# Altium integrated library Flight_Computer_1.IntLib: 48 symbols (part 1 of 3)
Pins are listed as number, name and electrical type; pins without a type are passive.

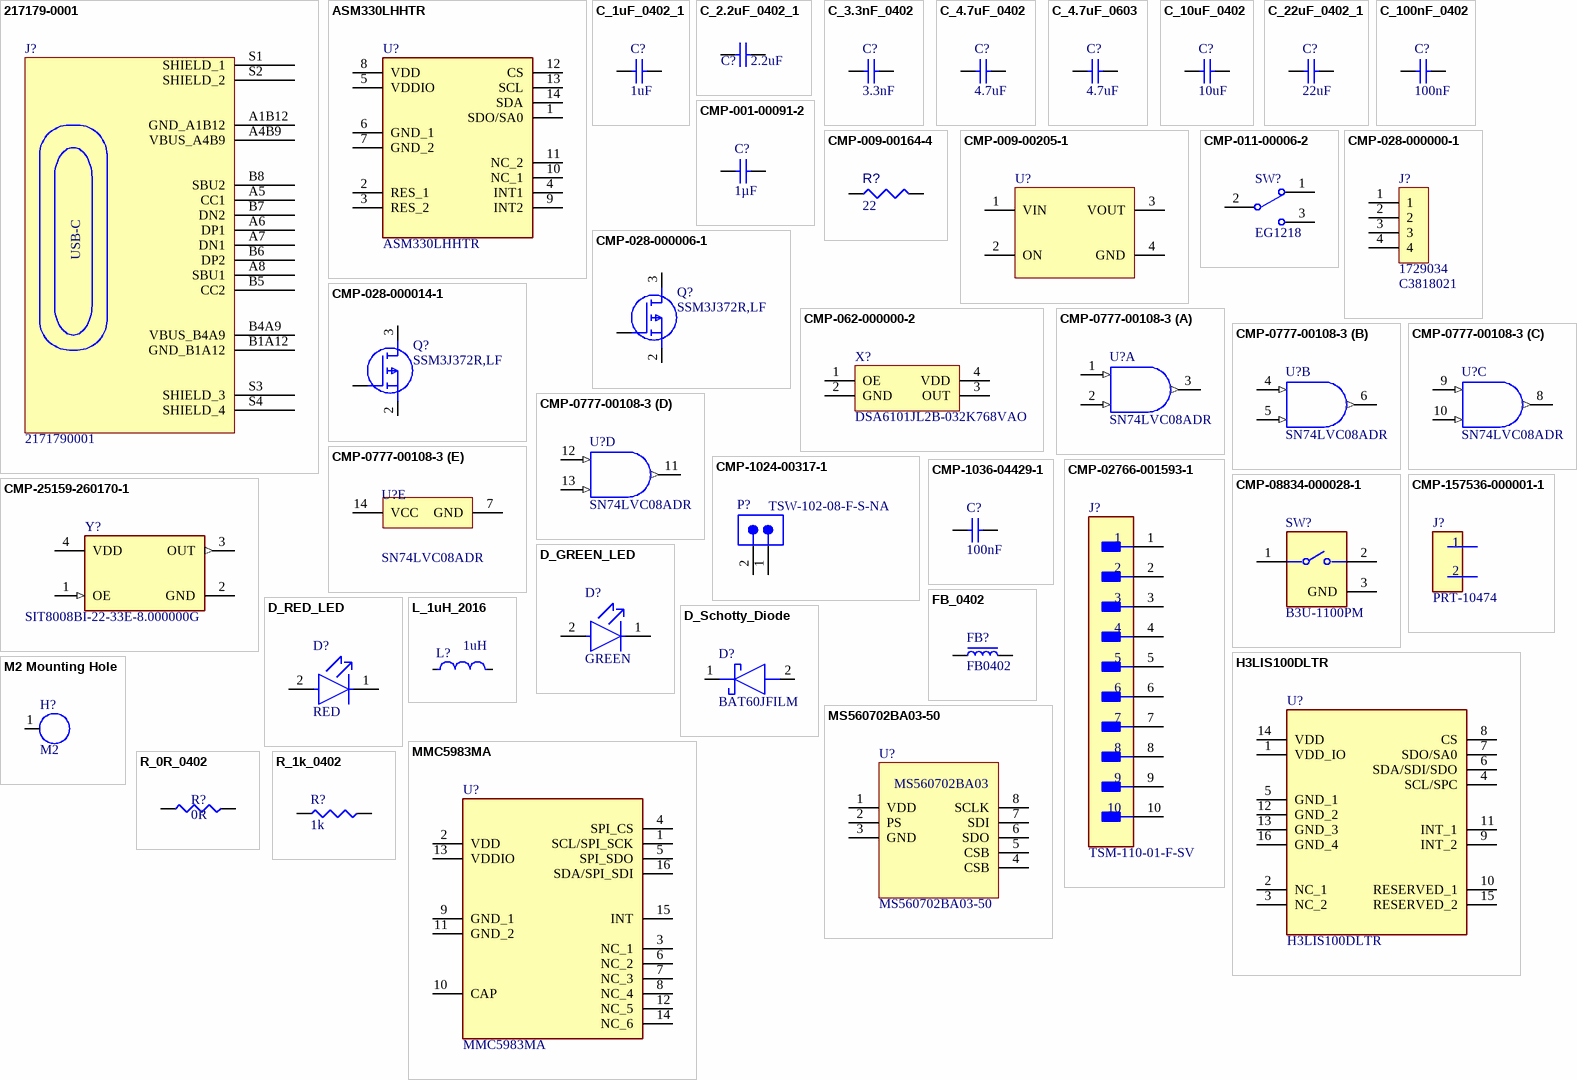
[diagram p0: symbols 217179-0001 to R_1k_0402]

## 217179-0001
designator J?, comment 2171790001
CONN RCP USB2.0 TYP C 24P SMD RA; Manufacturer: Molex; Manufacturer Part Number: 217179-0001; Supplier: Digikey; Supplier Part Number: 900-2171790001CT-ND; RoHS: No; Category: Connectors; Stock: 11294; Pricing: 1=0.98, 10=0.731, 25=0.6564, 50=0.6074, 100=0.5642, 250=0.51468, 500=0.48234, 1200=0.44689, 2400=0.42258, 3600=0.40973, 6000=0.39484, 8400=0.38577, 12000=0.37675 (USD); LCSC Part #: C3197684
footprint FP-2171790001-MFG
pins: A1B12 GND_A1B12, A4B9 VBUS_A4B9, A5 CC1, A6 DP1, A7 DN1, A8 SBU1, B1A12 GND_B1A12, B4A9 VBUS_B4A9, B5 CC2, B6 DP2, B7 DN2, B8 SBU2, S1 SHIELD_1, S2 SHIELD_2, S3 SHIELD_3, S4 SHIELD_4
text: USB-C

## ASM330LHHTR
designator U?
Accelerometer and Gyroscope 6-Axis 3D Digital-I2C/Digital-SPI-OUT 14-Pin LGA T/R; Manufacturer_Name: STMicroelectronics; Max Supply Voltage: 3.6V; Min Supply Voltage: 2V; Number of Circuits: 1; Operating Supply Voltage: 3V; Datasheet Link: https://www.st.com/resource/en/datasheet/asm330lhh.pdf; Height: 0.86mm; Manufacturer_Part_Number: ASM330LHHTR; Mouser Part Number: 511-ASM330LHHTR; Mouser Price/Stock: https://www.mouser.co.uk/ProductDetail/STMicroelectronics/ASM330LHHTR?qs=lc2O%252BfHJPVYgP8P9MzExKQ%3D%3D; Arrow Part Number: ASM330LHHTR; Arrow Price/Stock: https://www.arrow.com/en/products/asm330lhhtr/stmicroelectronics?utm_currency=USD&region=europe; Supplier: DigiKey; Supplier Part Number: 497-19078-1-ND; Manufacturer: STMicroelectronics; Manufacturer Part Number: ASM330LHHTR; RoHS: Compliant; Category: Accelerometers; Stock: 5000; Pricing: 1=7.25, 5=6.54, 10=6.275, 25=5.9592, 50=5.743, 100=5.545, 500=5.34888 (USD); China RoHS: Non-Compliant; Height - Seated (Max): 860µm; Length: 3mm; Lifecycle Status: Production; Max Operating Temperature: 105°C; Min Operating Temperature: -40°C; Number of Terminals: 14; Output Type: Digital; REACH SVHC: Yes; Terminal Pitch: 500µm; Width: 2.5mm; ComponentLink1URL: https://datasheet.octopart.com:443/ASM330LHHTR-STMicroelectronics-datasheet-181242432.pdf?src-supplier=IHS; ComponentLink1Description: https://datasheet.octopart.com:443/ASM330LHHTR-STMicroelectronics-datasheet-181242432.pdf?src-supplier=IHS; ComponentLink2URL: https://datasheet.octopart.com:443/ASM330LHHTR-STMicroelectronics-datasheet-129375621.pdf?src-supplier=ODG+(Origin+Data+Global); ComponentLink2Description: https://datasheet.octopart.com:443/ASM330LHHTR-STMicroelectronics-datasheet-129375621.pdf?src-supplier=ODG+(Origin+Data+Global); LCSC Part #: C459826
footprint LSM6DS3USTR
pins: 1 SDO/SA0, 2 RES_1, 3 RES_2, 4 INT1, 5 VDDIO, 6 GND_1, 7 GND_2, 8 VDD, 9 INT2, 10 NC_1, 11 NC_2, 12 CS, 13 SCL, 14 SDA

## C_1uF_0402_1
designator C?, comment 1uF
CAP CER 1UF 6.3V X5R 0402; Manufacturer: KYOCERA AVX; Manufacturer Part Number: 04026D105KAT4A; Value: 1µF; Dielectric Material: Ceramic; Tolerance: 10%; Supplier: DigiKey; Supplier Part Number: 478-KGM05AR50J105KNCT-ND; RoHS: Compliant; Category: Ceramic Capacitors; Stock: 202864; Pricing: 1=0.1, 10=0.047, 50=0.0318, 100=0.0274, 500=0.01992, 1000=0.01763, 2500=0.01522, 5000=0.01376 (USD); Case/Package: 0402; Case Code (Imperial): 0402; Case Code (Metric): 1005; China RoHS: Compliant; Contact Plating: Tin; Depth: 500µm; Dielectric: X5R; Height: 560µm; Lead Free: Lead Free; Length: 1mm; Lifecycle Status: Production; Max Operating Temperature: 85°C; Min Operating Temperature: -55°C; Mounting Technology: Surface Mount; Pins: 2; Number of Terminals: 2; Packaging: Tape and Reel; Radiation Hardening: No; REACH SVHC: Yes; Termination: SMD/SMT; Voltage Rating: 6.3V; Voltage Rating (DC): 6.3V; Width: 500µm; ComponentLink1URL: https://datasheet.octopart.com:443/04026D105KAT4A-KYOCERA-AVX-datasheet-165873359.pdf?src-supplier=IHS; ComponentLink1Description: https://datasheet.octopart.com:443/04026D105KAT4A-KYOCERA-AVX-datasheet-165873359.pdf?src-supplier=IHS; ComponentLink2URL: https://datasheet.octopart.com:443/04026D105KAT4A-AVX-Interconnect---Elco-datasheet-12340990.pdf?src-supplier=Farnell; ComponentLink2Description: https://datasheet.octopart.com:443/04026D105KAT4A-AVX-Interconnect---Elco-datasheet-12340990.pdf?src-supplier=Farnell; ComponentLink3URL: https://datasheet.octopart.com:443/04026D105KAT4A-KYOCERA-AVX-datasheet-78690022.pdf?src-supplier=element14+APAC; ComponentLink3Description: https://datasheet.octopart.com:443/04026D105KAT4A-KYOCERA-AVX-datasheet-78690022.pdf?src-supplier=element14+APAC; ComponentLink4URL: https://datasheet.octopart.com:443/04026D105KAT4A-KYOCERA-AVX-datasheet-155912759.pdf?src-supplier=TME; ComponentLink4Description: https://datasheet.octopart.com:443/04026D105KAT4A-KYOCERA-AVX-datasheet-155912759.pdf?src-supplier=TME; ComponentLink5URL: https://datasheet.octopart.com:443/04026D105KAT4A-KYOCERA-AVX-datasheet-50865064.pdf?src-supplier=Future+Electronics; ComponentLink5Description: https://datasheet.octopart.com:443/04026D105KAT4A-KYOCERA-AVX-datasheet-50865064.pdf?src-supplier=Future+Electronics; ComponentLink6URL: https://datasheet.octopart.com:443/04026D105KAT4A-AVX-datasheet-8448153.pdf?src-supplier=Future+Electronics; ComponentLink6Description: https://datasheet.octopart.com:443/04026D105KAT4A-AVX-datasheet-8448153.pdf?src-supplier=Future+Electronics; ComponentLink7URL: https://datasheet.octopart.com:443/04026D105KAT4A-AVX-datasheet-5314571.pdf?src-supplier=Future+Electronics; ComponentLink7Description: https://datasheet.octopart.com:443/04026D105KAT4A-AVX-datasheet-5314571.pdf?src-supplier=Future+Electronics; ComponentLink8URL: https://datasheet.octopart.com/04026D105KAT4A-KYOCERA-AVX-datasheet-13516023.pdf; ComponentLink8Description: https://datasheet.octopart.com/04026D105KAT4A-KYOCERA-AVX-datasheet-13516023.pdf; ComponentLink9URL: http://sigma.octopart.com:80/reach_statement/AVX-company-19.pdf?src-supplier=Compliance+Statements; ComponentLink9Description: http://sigma.octopart.com:80/reach_statement/AVX-company-19.pdf?src-supplier=Compliance+Statements; ComponentLink10URL: http://sigma.octopart.com:80/conflict_mineral_statement/AVX-company-34.pdf?src-supplier=Compliance+Statements; ComponentLink10Description: http://sigma.octopart.com:80/conflict_mineral_statement/AVX-company-34.pdf?src-supplier=Compliance+Statements; LCSC Part #: C2170652
footprint 0402_C
pins: 1, 2

## C_2.2uF_0402_1
designator C?, comment 2.2uF
Ceramic Capacitor, Ceramic, 25V, 20% +Tol, 20% -Tol, X5R, 15% TC, 2.2uF, Surface Mount, 0402; Manufacturer: Yageo Group; Manufacturer Part Number: CC0402MRX5R8BB225; Dielectric: C0G; Insulation Resistance: 10GΩ; Temperature Coefficient: 30ppm/°C; Voltage Rating: 50V; Value: 2.2µF; Case/Package: 0402; Case Code (Imperial): 0402; Case Code (Metric): 1005; China RoHS: Compliant; Composition: Ceramic; Depth: 500µm; Dielectric Material: Ceramic; Halogen Free: Halogen Free; Height: 500µm; Lead Free: Lead Free; Length: 1mm; Lifecycle Status: Production; Max Operating Temperature: 125°C; Min Operating Temperature: -55°C; Mounting Technology: Surface Mount; Pins: 2; Number of Terminals: 2; Packaging: Tape & Reel (TR); Radiation Hardening: No; REACH SVHC: Yes; Schedule B: 8532240020, 8532240020|8532240020|8532240020|8532240020|8532240020; Termination: SMD/SMT; Thickness: 558.8µm; Voltage Rating (DC): 50V; Weight: 652.039032µg; Width: 500µm; ComponentLink1URL: https://datasheet.octopart.com:443/CC0402CRNPO9BN2R7-Yageo-datasheet-182140217.pdf?src-supplier=IHS; ComponentLink1Description: https://datasheet.octopart.com:443/CC0402CRNPO9BN2R7-Yageo-datasheet-182140217.pdf?src-supplier=IHS; ComponentLink2URL: https://datasheet.octopart.com:443/CC0402CRNPO9BN2R7-Yageo-datasheet-151948684.pdf?src-supplier=Farnell; ComponentLink2Description: https://datasheet.octopart.com:443/CC0402CRNPO9BN2R7-Yageo-datasheet-151948684.pdf?src-supplier=Farnell; ComponentLink3URL: https://datasheet.octopart.com:443/CC0402CRNPO9BN2R7-Yageo-datasheet-181966735.pdf?src-supplier=Farnell; ComponentLink3Description: https://datasheet.octopart.com:443/CC0402CRNPO9BN2R7-Yageo-datasheet-181966735.pdf?src-supplier=Farnell; ComponentLink4URL: https://datasheet.octopart.com:443/CC0402CRNPO9BN2R7-Yageo-datasheet-137875056.pdf?src-supplier=Future+Electronics; ComponentLink4Description: https://datasheet.octopart.com:443/CC0402CRNPO9BN2R7-Yageo-datasheet-137875056.pdf?src-supplier=Future+Electronics; ComponentLink5URL: https://datasheet.octopart.com:443/CC0402CRNPO9BN2R7-Yageo-datasheet-136957424.pdf?src-supplier=Future+Electronics; ComponentLink5Description: https://datasheet.octopart.com:443/CC0402CRNPO9BN2R7-Yageo-datasheet-136957424.pdf?src-supplier=Future+Electronics; ComponentLink6URL: https://datasheet.octopart.com:443/CC0402CRNPO9BN2R7-Yageo-datasheet-137700082.pdf?src-supplier=Future+Electronics; ComponentLink6Description: https://datasheet.octopart.com:443/CC0402CRNPO9BN2R7-Yageo-datasheet-137700082.pdf?src-supplier=Future+Electronics; ComponentLink7URL: https://datasheet.octopart.com:443/CC0402CRNPO9BN2R7-Yageo-datasheet-78855684.pdf?src-supplier=Future+Electronics; ComponentLink7Description: https://datasheet.octopart.com:443/CC0402CRNPO9BN2R7-Yageo-datasheet-78855684.pdf?src-supplier=Future+Electronics; ComponentLink8URL: https://datasheet.octopart.com:443/CC0402CRNPO9BN2R7-Yageo-datasheet-24578986.pdf?src-supplier=Future+Electronics; ComponentLink8Description: https://datasheet.octopart.com:443/CC0402CRNPO9BN2R7-Yageo-datasheet-24578986.pdf?src-supplier=Future+Electronics; ComponentLink9URL: https://datasheet.octopart.com:443/CC0402CRNPO9BN2R7-Yageo-datasheet-16730043.pdf?src-supplier=Future+Electronics; ComponentLink9Description: https://datasheet.octopart.com:443/CC0402CRNPO9BN2R7-Yageo-datasheet-16730043.pdf?src-supplier=Future+Electronics; ComponentLink10URL: https://datasheet.octopart.com:443/CC0402CRNPO9BN2R7-Yageo-datasheet-12589826.pdf?src-supplier=Future+Electronics; ComponentLink10Description: https://datasheet.octopart.com:443/CC0402CRNPO9BN2R7-Yageo-datasheet-12589826.pdf?src-supplier=Future+Electronics; ComponentLink11URL: https://datasheet.octopart.com:443/CC0402CRNPO9BN2R7-Yageo-datasheet-10406438.pdf?src-supplier=Newark; ComponentLink11Description: https://datasheet.octopart.com:443/CC0402CRNPO9BN2R7-Yageo-datasheet-10406438.pdf?src-supplier=Newark; ComponentLink12URL: https://datasheet.octopart.com:443/CC0402CRNPO9BN2R7-Yageo-datasheet-65873193.pdf?src-supplier=Newark; ComponentLink12Description: https://datasheet.octopart.com:443/CC0402CRNPO9BN2R7-Yageo-datasheet-65873193.pdf?src-supplier=Newark; ComponentLink13URL: https://datasheet.octopart.com:443/CC0402CRNPO9BN2R7-Yageo-datasheet-68296204.pdf?src-supplier=Megastar; ComponentLink13Description: https://datasheet.octopart.com:443/CC0402CRNPO9BN2R7-Yageo-datasheet-68296204.pdf?src-supplier=Megastar; ComponentLink14URL: http://sigma.octopart.com:80/rohs_statement/Yageo-company-2.pdf?src-supplier=Compliance+Statements; ComponentLink14Description: http://sigma.octopart.com:80/rohs_statement/Yageo-company-2.pdf?src-supplier=Compliance+Statements; ComponentLink15URL: http://sigma.octopart.com:80/conflict_mineral_statement/Yageo-company-3.pdf?src-supplier=Compliance+Statements; ComponentLink15Description: http://sigma.octopart.com:80/conflict_mineral_statement/Yageo-company-3.pdf?src-supplier=Compliance+Statements; LCSC Part #: C277484; Supplier: DigiKey; Supplier Part Number: 13-CC0402MRX5R8BB225CT-ND; RoHS: Compliant; Category: Ceramic Capacitors; Stock: 20337; Pricing: 1=0.3, 10=0.176, 50=0.1282, 100=0.1135, 500=0.08336, 1000=0.08124, 2500=0.07321, 5000=0.06838 (USD); Material: Ceramic; ComponentLink16URL: https://datasheet.octopart.com:443/CC0402MRX5R8BB225-Yageo-datasheet-170350636.pdf?src-supplier=IHS; ComponentLink16Description: https://datasheet.octopart.com:443/CC0402MRX5R8BB225-Yageo-datasheet-170350636.pdf?src-supplier=IHS; ComponentLink17URL: https://datasheet.octopart.com:443/CC0402MRX5R8BB225-Yageo-datasheet-78855684.pdf?src-supplier=Upverter; ComponentLink17Description: https://datasheet.octopart.com:443/CC0402MRX5R8BB225-Yageo-datasheet-78855684.pdf?src-supplier=Upverter; ComponentLink18URL: https://datasheet.octopart.com:443/CC0402MRX5R8BB225-Yageo-datasheet-181967557.pdf?src-supplier=Farnell; ComponentLink18Description: https://datasheet.octopart.com:443/CC0402MRX5R8BB225-Yageo-datasheet-181967557.pdf?src-supplier=Farnell; ComponentLink19URL: https://datasheet.octopart.com:443/CC0402MRX5R8BB225-Yageo-datasheet-181967556.pdf?src-supplier=Farnell; ComponentLink19Description: https://datasheet.octopart.com:443/CC0402MRX5R8BB225-Yageo-datasheet-181967556.pdf?src-supplier=Farnell; ComponentLink20URL: https://datasheet.octopart.com:443/CC0402MRX5R8BB225-Yageo-datasheet-145016144.pdf?src-supplier=ODG+(Origin+Data+Global); ComponentLink20Description: https://datasheet.octopart.com:443/CC0402MRX5R8BB225-Yageo-datasheet-145016144.pdf?src-supplier=ODG+(Origin+Data+Global); ComponentLink21URL: https://datasheet.octopart.com/CC0402MRX5R8BB225-Yageo-datasheet-86397281.pdf; ComponentLink21Description: https://datasheet.octopart.com/CC0402MRX5R8BB225-Yageo-datasheet-86397281.pdf; Supplier 1: DigiKey; Supplier Part Number 1: 13-CC0402KRX5R8BB225CT-ND; LCSC Part #: C723363
footprint 0402_C
pins: 1, 2

## C_3.3nF_0402
designator C?, comment 3.3nF
CAP CER 3300PF (3.3nF) 10V X7R 0402; Manufacturer: Samsung Electro-Mechanics; Manufacturer Part Number: CL05B332KA5VPNC; Dielectric Material: Ceramic; Tolerance: 10%; Voltage Rating: 25V; Supplier: DigiKey; Supplier Part Number: 1276-CL05B332KA5VPNCCT-ND; RoHS: Compliant; Category: Ceramic Capacitors; Stock: 24876; Pricing: 1=0.1, 10=0.034, 50=0.0226, 100=0.0193, 500=0.0138, 1000=0.01212, 2500=0.01034, 5000=0.00928 (USD); Value: 3.3nF; Case/Package: 0402; China RoHS: Compliant; Height: 500µm; Length: 1mm; Lifecycle Status: Production; Material: Ceramic; Max Operating Temperature: 125°C; Min Operating Temperature: -55°C; Mounting Technology: Surface Mount; Number of Terminals: 2; REACH SVHC: Yes; Voltage Rating (DC): 25V; Width: 500µm; ComponentLink1URL: https://datasheet.octopart.com:443/CL05B332KA5VPNC-Samsung-Electro-Mechanics-datasheet-176142735.pdf?src-supplier=IHS; ComponentLink1Description: https://datasheet.octopart.com:443/CL05B332KA5VPNC-Samsung-Electro-Mechanics-datasheet-176142735.pdf?src-supplier=IHS; Case Code (Imperial): 0402; Case Code (Metric): 1005; Dielectric: X7R; Pins: 2; Termination: SMD/SMT; Weight: 652.039032µg; ComponentLink2URL: https://datasheet.octopart.com:443/C0402C332M8RACTU-KEMET-datasheet-178445679.pdf?src-supplier=IHS; ComponentLink2Description: https://datasheet.octopart.com:443/C0402C332M8RACTU-KEMET-datasheet-178445679.pdf?src-supplier=IHS; ComponentLink3URL: https://datasheet.octopart.com:443/C0402C332M8RACTU-KEMET-datasheet-137357759.pdf?src-supplier=Upverter; ComponentLink3Description: https://datasheet.octopart.com:443/C0402C332M8RACTU-KEMET-datasheet-137357759.pdf?src-supplier=Upverter; ComponentLink4URL: https://datasheet.octopart.com:443/C0402C332M8RACTU-KEMET-datasheet-157246124.pdf?src-supplier=Electro+Sonic; ComponentLink4Description: https://datasheet.octopart.com:443/C0402C332M8RACTU-KEMET-datasheet-157246124.pdf?src-supplier=Electro+Sonic; ComponentLink5URL: https://datasheet.octopart.com/C0402C332M8RACTU-KEMET-datasheet-84169754.pdf; ComponentLink5Description: https://datasheet.octopart.com/C0402C332M8RACTU-KEMET-datasheet-84169754.pdf; LCSC Part #: C20793063
footprint 0402_C
pins: 1, 2

## C_4.7uF_0402
designator C?, comment 4.7uF
CAP CER 4.7UF 16V X5R 0402; Manufacturer: Samsung; Manufacturer Part Number: CL05A475MO5NUNC; Dielectric Material: Ceramic; Multilayer: Yes; Tolerance  (fill in as +-): 20%; Supplier: Digikey; Supplier Part Number: 1276-6836-1-ND; RoHS: Yes; Category: Ceramic Capacitors; Stock: 200989; Pricing: 1=0.43, 10=0.252, 50=0.1826, 100=0.161, 500=0.12446, 1000=0.11305, 2500=0.10094, 5000=0.0936, 10000=0.08752, 20000=0.08248, 30000=0.07994, 50000=0.07712, 70000=0.07547, 100000=0.07387 (USD); Mounting Technology: Surface Mount; Pins: 2; Package Shape: Rectangular; Case/Package: 0402; Terminal Finish: Nickel; Min Operating Temperature: -55°C; Max Operating Temperature: 85°C; JESD-609 Code: e3; Value: 4.7uF; Capacitor Type: Ceramic; Package Style: SMTMeter; Packaging: Tape and Reel; Tolerance (fill in as +-): 20%; Rated DC Voltage (URdc): 16V; Temperature Characteristics Code: X5R; Termination: Wraparound; Length: 1mm; Width: 0.5mm; Height: 0.7mm; Reach SVHC Compliant: Yes; RoHS Compliant: Yes; ComponentLink1URL: https://datasheet.ciiva.com:443/pdfs/VipMasterIC/IC/SEMS/SEMS-S-A0008384515/SEMS-S-A0008898881-1.pdf?src-supplier=IHS+Markit; ComponentLink1Description: https://datasheet.ciiva.com:443/pdfs/VipMasterIC/IC/SEMS/SEMS-S-A0008384515/SEMS-S-A0008898881-1.pdf?src-supplier=IHS+Markit; ComponentLink2URL: http://www.farnell.com/datasheets/2710653.pdf?src-supplier=Farnell; ComponentLink2Description: http://www.farnell.com/datasheets/2710653.pdf?src-supplier=Farnell; ComponentLink3URL: http://www.samsungsem.com/kr/support/product-search/mlcc/CL05A475MO5NUNC.jsp?src-supplier=Digikey; ComponentLink3Description: http://www.samsungsem.com/kr/support/product-search/mlcc/CL05A475MO5NUNC.jsp?src-supplier=Digikey; ComponentLink4URL: http://www.farnell.com/datasheets/2710653.pdf?src-supplier=Newark; ComponentLink4Description: http://www.farnell.com/datasheets/2710653.pdf?src-supplier=Newark; ComponentLink5URL: http://www.farnell.com/datasheets/2710653.pdf?src-supplier=Element14; ComponentLink5Description: http://www.farnell.com/datasheets/2710653.pdf?src-supplier=Element14; ComponentLink6URL: https://datasheet.octopart.com/CL05A475MO5NUNC-Samsung-Electro-Mechanics-datasheet-123102911.pdf?src-supplier=Future+Electronics; ComponentLink6Description: https://datasheet.octopart.com/CL05A475MO5NUNC-Samsung-Electro-Mechanics-datasheet-123102911.pdf?src-supplier=Future+Electronics; LCSC Part #: C318563
footprint 0402_C
pins: 1, 2

## C_4.7uF_0603
designator C?, comment 4.7uF
CAP CER 4.7UF 10V X5R 0603; Manufacturer_Name: SAMSUNG; Manufacturer_Part_Number: CL10A475KP8NNNC; Datasheet Link: https://www.arrow.com/en/products/cl10a475kp8nnnc/samsung-electro-mechanics; Height: 0.9mm; Mouser Part Number: 187-CL10A475KP8NNNC; Mouser Price/Stock: https://www.mouser.co.uk/ProductDetail/Samsung-Electro-Mechanics/CL10A475KP8NNNC?qs=hqM3L16%252BxlfQRmkWsZz5vA%3D%3D; Arrow Part Number: CL10A475KP8NNNC; Arrow Price/Stock: https://www.arrow.com/en/products/cl10a475kp8nnnc/samsung-electro-mechanics?utm_currency=USD&region=nac; LCSC Part #: C1705
footprint 0603
pins: 1, 2

## C_10uF_0402
designator C?, comment 10uF
Ceramic Capacitor, Multilayer, Ceramic, 10V, 20% +Tol, 20% -Tol, X5R, +-15% TC, 10uF, Surface Mount, 0402 inch; Manufacturer: Samsung Electro-Mechanics; Manufacturer Part Number: CL05A106MP5NUNC; Value: 10µF; LCSC Part #: C315248; Supplier: DigiKey; Supplier Part Number: 1276-1450-1-ND; RoHS: Compliant; Category: Ceramic Capacitors; Stock: 1973072; Pricing: 1=0.08, 10=0.038, 50=0.034, 100=0.0296, 500=0.0272, 1000=0.02, 2500=0.01844 (USD); Case/Package: 0402; Case Code (Imperial): 0402; Case Code (Metric): 1005; China RoHS: Compliant; Contact Plating: Tin; Depth: 500µm; Dielectric: X5R; Dielectric Material: Ceramic; Height: 700µm; Lead Free: Lead Free; Length: 1mm; Lifecycle Status: NRND; Material: Ceramic; Max Operating Temperature: 85°C; Min Operating Temperature: -55°C; Mounting Technology: Surface Mount; Number of Terminals: 2; Packaging: Tape and Reel; Radiation Hardening: No; REACH SVHC: Yes; Schedule B: 8532240020, 8532240020|8532240020|8532240020|8532240020|8532240020|8532240020|8532240020|8532240020|8532240020|8532240020|8532240020|8532240020|8532240020|8532240020|8532240020|8532240020|8532240020|8532240020|8532240020|8532240020|8532240020|8532240020|8532240020|85; Termination: Wraparound; Thickness: 711.2µm; Tolerance: 20%; Voltage Rating: 10V; Voltage Rating (DC): 10V; Width: 500µm; ComponentLink1URL: https://datasheet.octopart.com:443/CL05A106MP5NUNC-Samsung-Electro-Mechanics-datasheet-182018593.pdf?src-supplier=IHS; ComponentLink1Description: https://datasheet.octopart.com:443/CL05A106MP5NUNC-Samsung-Electro-Mechanics-datasheet-182018593.pdf?src-supplier=IHS; ComponentLink2URL: https://datasheet.octopart.com:443/CL05A106MP5NUNC-Samsung-Electro-Mechanics-datasheet-136031723.pdf?src-supplier=Upverter; ComponentLink2Description: https://datasheet.octopart.com:443/CL05A106MP5NUNC-Samsung-Electro-Mechanics-datasheet-136031723.pdf?src-supplier=Upverter; ComponentLink3URL: https://datasheet.octopart.com:443/CL05A106MP5NUNC-Samsung-Electro-Mechanics-datasheet-110226206.pdf?src-supplier=Future+Electronics; ComponentLink3Description: https://datasheet.octopart.com:443/CL05A106MP5NUNC-Samsung-Electro-Mechanics-datasheet-110226206.pdf?src-supplier=Future+Electronics; ComponentLink4URL: https://datasheet.octopart.com:443/CL05A106MP5NUNC-Samsung-Electro-Mechanics-datasheet-87580039.pdf?src-supplier=Future+Electronics; ComponentLink4Description: https://datasheet.octopart.com:443/CL05A106MP5NUNC-Samsung-Electro-Mechanics-datasheet-87580039.pdf?src-supplier=Future+Electronics; ComponentLink5URL: https://datasheet.octopart.com:443/CL05A106MP5NUNC-Samsung-Electro-Mechanics-datasheet-81461595.pdf?src-supplier=Future+Electronics; ComponentLink5Description: https://datasheet.octopart.com:443/CL05A106MP5NUNC-Samsung-Electro-Mechanics-datasheet-81461595.pdf?src-supplier=Future+Electronics; ComponentLink6URL: https://datasheet.octopart.com:443/CL05A106MP5NUNC-Samsung-datasheet-42280527.pdf?src-supplier=Future+Electronics; ComponentLink6Description: https://datasheet.octopart.com:443/CL05A106MP5NUNC-Samsung-datasheet-42280527.pdf?src-supplier=Future+Electronics; ComponentLink7URL: https://datasheet.octopart.com:443/CL05A106MP5NUNC-Samsung-datasheet-34153002.pdf?src-supplier=Future+Electronics; ComponentLink7Description: https://datasheet.octopart.com:443/CL05A106MP5NUNC-Samsung-datasheet-34153002.pdf?src-supplier=Future+Electronics; ComponentLink8URL: https://datasheet.octopart.com:443/CL05A106MP5NUNC-Samsung-datasheet-25077983.pdf?src-supplier=Future+Electronics; ComponentLink8Description: https://datasheet.octopart.com:443/CL05A106MP5NUNC-Samsung-datasheet-25077983.pdf?src-supplier=Future+Electronics; ComponentLink9URL: https://datasheet.octopart.com:443/CL05A106MP5NUNC-Samsung-Electro-Mechanics-datasheet-149136670.pdf?src-supplier=Future+Electronics; ComponentLink9Description: https://datasheet.octopart.com:443/CL05A106MP5NUNC-Samsung-Electro-Mechanics-datasheet-149136670.pdf?src-supplier=Future+Electronics; ComponentLink10URL: https://datasheet.octopart.com:443/CL05A106MP5NUNC-Samsung-datasheet-8326407.pdf?src-supplier=TME; ComponentLink10Description: https://datasheet.octopart.com:443/CL05A106MP5NUNC-Samsung-datasheet-8326407.pdf?src-supplier=TME
footprint 0402_C
pins: 1, 2

## C_22uF_0402_1
designator C?, comment 22uF
CAP CER 22UF 10V X5R 0402; Manufacturer: Murata; Manufacturer Part Number: GRM158R61A226ME15D; Manufacturer Lifecycle Status: IN PRODUCTION; Value: 22µF; Dielectric Material: Ceramic; Tolerance: 20%; Supplier: DigiKey; Supplier Part Number: 490-GRM158R61A226ME15DCT-ND; RoHS: Compliant; Category: Ceramic Capacitors; Stock: 154156; Pricing: 1=0.41, 10=0.247, 50=0.1828, 100=0.1632, 500=0.1301, 1000=0.1199, 2500=0.10912, 8000=0.09979, 16000=0.09611, 24000=0.09372, 40000=0.09107, 56000=0.09089, 80000=0.08732 (USD); Case/Package: 0402; Dielectric: X5R; Height: 800µm; Length: 1mm; Lifecycle Status: Production; Material: Ceramic; Max Operating Temperature: 85°C; Min Operating Temperature: -55°C; Mounting Technology: Surface Mount; Number of Terminals: 2; REACH SVHC: Yes; Thickness: 800µm; Voltage Rating: 10V; Voltage Rating (DC): 10V; Width: 500µm; ComponentLink1URL: https://datasheet.octopart.com:443/GRM158R61A226ME15D-Murata-datasheet-165579666.pdf?src-supplier=TME; ComponentLink1Description: https://datasheet.octopart.com:443/GRM158R61A226ME15D-Murata-datasheet-165579666.pdf?src-supplier=TME; ComponentLink2URL: https://datasheet.octopart.com/GRM158R61A226ME15D-Murata-datasheet-12515295.pdf; ComponentLink2Description: https://datasheet.octopart.com/GRM158R61A226ME15D-Murata-datasheet-12515295.pdf; ComponentLink3URL: https://datasheet.octopart.com/GRM158R61A226ME15D-Murata-datasheet-12510076.pdf; ComponentLink3Description: https://datasheet.octopart.com/GRM158R61A226ME15D-Murata-datasheet-12510076.pdf; ComponentLink4URL: https://datasheet.octopart.com/GRM158R61A226ME15D-Murata-datasheet-11978611.pdf; ComponentLink4Description: https://datasheet.octopart.com/GRM158R61A226ME15D-Murata-datasheet-11978611.pdf; ComponentLink5URL: https://datasheet.octopart.com/GRM158R61A226ME15D-Murata-datasheet-10025737.pdf; ComponentLink5Description: https://datasheet.octopart.com/GRM158R61A226ME15D-Murata-datasheet-10025737.pdf; ComponentLink6URL: https://datasheet.octopart.com/GRM158R61A226ME15D-Murata-datasheet-8819587.pdf; ComponentLink6Description: https://datasheet.octopart.com/GRM158R61A226ME15D-Murata-datasheet-8819587.pdf; ComponentLink7URL: http://sigma.octopart.com:80/reach_statement/Murata-company-16.pdf?src-supplier=Compliance+Statements; ComponentLink7Description: http://sigma.octopart.com:80/reach_statement/Murata-company-16.pdf?src-supplier=Compliance+Statements; LCSC Part #: C3845593
footprint 0402_C
pins: 1, 2

## C_100nF_0402
designator C?, comment 100nF
Ceramic Capacitor, Multilayer, Ceramic, 16V, 10% +Tol, 10% -Tol, X7R, +-15% TC, 100nF, Surface Mount, 0402 inch; Manufacturer: Samsung Electro-Mechanics; Manufacturer Part Number: CL05B104KO5NNNC; Supplier: DigiKey; Supplier Part Number: 1276-1001-1-ND; RoHS: Compliant; Category: Ceramic Capacitors; Stock: 253470; Pricing: 1=0.08, 10=0.009, 50=0.0076, 100=0.0064, 500=0.0056, 1000=0.004, 2500=0.00394 (USD); Value: 100nF; Case/Package: 0402; Case Code (Imperial): 0402; Case Code (Metric): 1005; China RoHS: Compliant; Contact Plating: Tin; Depth: 500µm; Dielectric: X7R; Dielectric Material: Ceramic; Height: 500µm; Lead Free: Lead Free; Length: 1mm; Lifecycle Status: Production; Material: Ceramic; Max Operating Temperature: 125°C; Min Operating Temperature: -55°C; Mounting Technology: Surface Mount; Number of Terminals: 2; Radiation Hardening: No; REACH SVHC: Yes; Schedule B: 8532240020, 8532240020|8532240020|8532240020|8532240020|8532240020|8532240020|8532240020|8532240020|8532240020|8532240020|8532240020|8532240020|8532240020|8532240020|8532240020|8532240020|8532240020|8532240020|8532240020|8532240020|8532240020|8532240020|8532240020|85; Thickness: 558.8µm; Tolerance: 10%; Voltage: 16V; Voltage Rating: 16V; Voltage Rating (DC): 16V; Width: 500µm; ComponentLink1URL: https://datasheet.octopart.com:443/CL05B104KO5NNNC-Samsung-Electro-Mechanics-datasheet-181960518.pdf?src-supplier=IHS; ComponentLink1Description: https://datasheet.octopart.com:443/CL05B104KO5NNNC-Samsung-Electro-Mechanics-datasheet-181960518.pdf?src-supplier=IHS; ComponentLink2URL: https://datasheet.octopart.com:443/CL05B104KO5NNNC-Samsung-Electro-Mechanics-datasheet-81461623.pdf?src-supplier=Upverter; ComponentLink2Description: https://datasheet.octopart.com:443/CL05B104KO5NNNC-Samsung-Electro-Mechanics-datasheet-81461623.pdf?src-supplier=Upverter; ComponentLink3URL: https://datasheet.octopart.com/CL05B104KO5NNNC-Samsung-Electro-Mechanics-datasheet-8324245.pdf; ComponentLink3Description: https://datasheet.octopart.com/CL05B104KO5NNNC-Samsung-Electro-Mechanics-datasheet-8324245.pdf; ComponentLink4URL: https://datasheet.octopart.com/CL05B104KO5NNNC-Samsung-Electro-Mechanics-datasheet-97040617.pdf; ComponentLink4Description: https://datasheet.octopart.com/CL05B104KO5NNNC-Samsung-Electro-Mechanics-datasheet-97040617.pdf; ComponentLink5URL: https://datasheet.octopart.com/General-Multilayer-Ceramic-Capacitors-Samsung-datasheet-family-111.pdf; ComponentLink5Description: https://datasheet.octopart.com/General-Multilayer-Ceramic-Capacitors-Samsung-datasheet-family-111.pdf; ComponentLink6URL: https://datasheet.octopart.com:443/CL05B104KO5NNNC-Samsung-Electro-Mechanics-datasheet-141346863.pdf?src-supplier=Samsung+SCT; ComponentLink6Description: https://datasheet.octopart.com:443/CL05B104KO5NNNC-Samsung-Electro-Mechanics-datasheet-141346863.pdf?src-supplier=Samsung+SCT; ComponentLink7URL: https://datasheet.octopart.com:443/CL05B104KO5NNNC-Samsung-datasheet-151956582.pdf?src-supplier=SOS+electronic; ComponentLink7Description: https://datasheet.octopart.com:443/CL05B104KO5NNNC-Samsung-datasheet-151956582.pdf?src-supplier=SOS+electronic; ComponentLink8URL: https://datasheet.octopart.com:443/CL05B104KO5NNNC-Samsung-datasheet-42485123.pdf?src-supplier=Future+Electronics; ComponentLink8Description: https://datasheet.octopart.com:443/CL05B104KO5NNNC-Samsung-datasheet-42485123.pdf?src-supplier=Future+Electronics; ComponentLink9URL: https://datasheet.octopart.com:443/CL05B104KO5NNNC-Samsung-datasheet-34153835.pdf?src-supplier=Future+Electronics; ComponentLink9Description: https://datasheet.octopart.com:443/CL05B104KO5NNNC-Samsung-datasheet-34153835.pdf?src-supplier=Future+Electronics; ComponentLink10URL: https://datasheet.octopart.com:443/CL05B104KO5NNNC-Samsung-datasheet-26589024.pdf?src-supplier=Future+Electronics; ComponentLink10Description: https://datasheet.octopart.com:443/CL05B104KO5NNNC-Samsung-datasheet-26589024.pdf?src-supplier=Future+Electronics; ComponentLink11URL: https://datasheet.octopart.com:443/CL05B104KO5NNNC-Samsung-Electro-Mechanics-datasheet-149136714.pdf?src-supplier=Future+Electronics; ComponentLink11Description: https://datasheet.octopart.com:443/CL05B104KO5NNNC-Samsung-Electro-Mechanics-datasheet-149136714.pdf?src-supplier=Future+Electronics; ComponentLink12URL: https://datasheet.octopart.com:443/CL05B104KO5NNNC-Samsung-datasheet-59220082.pdf?src-supplier=TME; ComponentLink12Description: https://datasheet.octopart.com:443/CL05B104KO5NNNC-Samsung-datasheet-59220082.pdf?src-supplier=TME; ComponentLink13URL: http://sigma.octopart.com:80/rohs_certificate/General-Multilayer-Ceramic-Capacitors-Samsung-family-110.pdf?src-supplier=Compliance+Statements; ComponentLink13Description: http://sigma.octopart.com:80/rohs_certificate/General-Multilayer-Ceramic-Capacitors-Samsung-family-110.pdf?src-supplier=Compliance+Statements; ComponentLink14URL: http://sigma.octopart.com:80/rohs_statement/General-Multilayer-Ceramic-Capacitors-Samsung-family-132.pdf?src-supplier=Compliance+Statements; ComponentLink14Description: http://sigma.octopart.com:80/rohs_statement/General-Multilayer-Ceramic-Capacitors-Samsung-family-132.pdf?src-supplier=Compliance+Statements; ComponentLink15URL: http://sigma.octopart.com:80/reach_statement/General-Multilayer-Ceramic-Capacitors-Samsung-family-133.pdf?src-supplier=Compliance+Statements; ComponentLink15Description: http://sigma.octopart.com:80/reach_statement/General-Multilayer-Ceramic-Capacitors-Samsung-family-133.pdf?src-supplier=Compliance+Statements; LCSC Part #: C1525
footprint 0402_C
pins: 1, 2

## CMP-001-00091-2
designator C?, comment value 1µF  (hidden comment: CL05A105KL5NRNC)
Ceramic Capacitor, Multilayer, Ceramic, 35V, 10% +Tol, 10% -Tol, X5R, 15% TC, 1uF, Surface Mount, 0402; Manufacturer: Samsung; Manufacturer: Samsung Electro-Mechanics; Tolerance: 1%; Working Voltage: 50V; Temperature Coefficient: 100ppm/°C; Rated Temperature: 70°C; Power: 62.5mW; Multilayer: Yes; Reference Standard: AEC-Q200; Package Height: 0.32mm; Additional Feature: LASER TRIMMABLE; Package Width: 0.5mm; Package Length: 1mm; RoHS Compliant: Yes; Rated DC Voltage (URdc): 35V; Termination: Wraparound; ComponentLink1URL: https://datasheet.ciiva.com:443/pdfs/VipMasterIC/IC/SEMS/SEMS-S-A0008384515/SEMS-S-A0008872905-1.pdf?src-supplier=IHS+Markit; Tolerance  (fill in as +-): 10%; Technology: METAL GLAZE/THICK FILM; Construction: Chip; Max Operating Temperature: 85°C; ComponentLink2URL: http://www.samsungsem.com/kr/support/product-search/mlcc/CL05A105KL5NRNC.jsp?src-supplier=Digikey; Pricing: 1=0.31, 10=0.181, 50=0.1296, 100=0.1136, 500=0.08658, 1000=0.07816, 2500=0.06921, 5000=0.06379, 10000=0.0593, 20000=0.05558, 30000=0.0537, 50000=0.05162, 70000=0.0504, 100000=0.04922 (USD); ComponentLink4Description: https://datasheet.ciiva.com:443/pdfs/VipMasterIC/IC/YAGO/YAGO-S-A0003597364/YAGO-S-A0003597364-1.pdf?src-supplier=IHS+Markit; Mounting Technology: Surface Mount; Stock: 299048; LCSC Part Number: C307413; Terminal Finish: Nickel; JESD-609 Code: e3; Dielectric Material: Ceramic; Tolerance (fill in as +-): 10%; ComponentLink4URL: https://datasheet.ciiva.com:443/pdfs/VipMasterIC/IC/YAGO/YAGO-S-A0003597364/YAGO-S-A0003597364-1.pdf?src-supplier=IHS+Markit; Pins: 2; ComponentLink5Description: https://datasheet.ciiva.com/12656/pyu-ac-51-rohs-l-2-12656634.pdf?src-supplier=Mouser; ComponentLink1Description: https://datasheet.ciiva.com:443/pdfs/VipMasterIC/IC/SEMS/SEMS-S-A0008384515/SEMS-S-A0008872905-1.pdf?src-supplier=IHS+Markit; ComponentLink3URL: https://datasheet.octopart.com/CL05A105KL5NRNC-Samsung-datasheet-8326407.pdf?src-supplier=TME; Min Operating Temperature: -55°C; ComponentLink2Description: http://www.samsungsem.com/kr/support/product-search/mlcc/CL05A105KL5NRNC.jsp?src-supplier=Digikey; Component Type: Standard; Package Style: SMTMeter; ComponentLink3Description: https://datasheet.octopart.com/CL05A105KL5NRNC-Samsung-datasheet-8326407.pdf?src-supplier=TME; Temperature Characteristics Code: X5R; Reach SVHC Compliant: Yes; Category: Ceramic Capacitors; Capacitor Type: Ceramic; RoHS: Yes; Case/Package: 0402; Package Shape: Rectangular; Design Item ID: CL05A105KL5NRNC; Manufacturer Part Number: CL05A105KL5NRNC; Packaging: Tape and Reel; Resistor Type: FIXED RESISTOR; ComponentLink5URL: https://datasheet.ciiva.com/12656/pyu-ac-51-rohs-l-2-12656634.pdf?src-supplier=Mouser; Source: Hybrids_Avionics.SCHLIB; Component Type: Capacitors
footprint 0402_C
pins: 1, 2

## CMP-009-00164-4
designator R?, comment value 22  (hidden comment: Resistor 22R  +/-5 % 0402 63 mW)
Chip Resistor, 22 Ohms, +/-5 %, 63 mW, -55 to 155 degC, 0402; Manufacturer: Bourns; Manufacturer Part Number: CR0402-JW-220GLF; Manufacturer: Vishay; Manufacturer Part Number: CRCW040222R0JNEE; Manufacturer Part Number: CRCW040222R0JNTD; Manufacturer: Yageo Group; Manufacturer Part Number: RC0402JR-0722RL; Manufacturer: Panasonic; Manufacturer Part Number: ERJ-2GEJ220X; Manufacturer Part Number: CRCW040222R0JNED; Manufacturer: Vishay Dale; Manufacturer Part Number: CRCW040222R0JNTE; Tolerance: 5%; Power: 63mW; Pins: 2; Min Operating Temperature: -55°C; Max Operating Temperature: 155°C; Case/Package: 0402; Component Type: Resistors
footprint RESC0402(1005)_L (Chip Resistor, Body 1.0x0.5mm, IPC High Density)
pins: 1, 2
1 alternate drawing of the same symbol

## CMP-009-00205-1
designator U?, comment TPS22991BNRAAR  (value not drawn)
5V, 3A, 25M LOAD SWITCH WITH OPT; Manufacturer: Texas Instruments; Pins: 4; Manufacturer Part Number: TPS22991BNRAAR; Component Type: Integrated Circuits
footprint TPS22991BNRAAR-Footprint-1
pins: 1 VIN, 2 ON, 3 VOUT, 4 GND

## CMP-011-00006-2
designator SW?, comment EG1218
Slide Switch, SPDT, 500 V, -20 to 70 degC, 3-Pin THD, RoHS, Bulk; Manufacturer: E-Switch; Voltage Rating (DC): 30V; Current Rating: 200mA; Operating Force: 250gf; Package Quantity: 1000; Contact Plating: Silver; Max Operating Temperature: 70°C; Min Operating Temperature: -20°C; Contact Material: Copper; Datasheet URL: https://www.e-switch.com/system/asset/product_line/data_sheet/119/EG.pdf; Contact Finish: Silver; Case/Package: EG1218; Voltage Rating (AC): 30V; Datasheet Version: Oct-15; Package Description: 3-Pin Through Hole Device, Body 11.6 x 4 mm, Pitch 2.5 mm; RoHS Compliant: True; Package Reference: EG1218; Manufacturer URL: http://www.e-switch.ch/en/; Throw Configuration: SPDT; Contact Current Rating: 200mA; Mounting Technology: TH; Packaging: Bulk; Pins: 3; Manufacturer Part Number: EG1218; Component Type: Switches
footprint ESWI-EG1218_V (THD, 3-Leads, Body 11.6x4mm, Pitch 2.5mm)
pins: 1, 2 COM, 3

## CMP-028-000000-1
designator J?, comment 1729034  LCSC Part Number: C3818021
TERM BLK 4POS SIDE ENTRY 5MM PCB; Manufacturer: Phoenix Contact; Number of Ways: 4; Number of Decks: 1; Voltage Rating: 250V; Fastening Method: SCREW; Wire/Cable Gauge: 16AWG; Safety Approval: UL; Current Rating: 13.5A; Wire Cross Section: 1.5mm2; RoHS Compliant: Yes; Reach SVHC Compliant: No; ComponentLink1Description: https://datasheet.ciiva.com:443/pdfs/VipMasterIC/IC/PCON/PCON-S-A0009615323/PCON-S-A0009615323-1.pdf?src-supplier=IHS+Markit; Source: Hybrids_Avionics.SCHLIB; ComponentLink6Description: https://datasheet.ciiva.com/14608/70054377-14608714.pdf?src-supplier=Allied+Electronics; ComponentLink2Description: https://datasheet.ciiva.com/824/1729034-824323.pdf?src-supplier=Digikey; ComponentLink4URL: https://datasheet.ciiva.com/15225/getdatasheetpartid-305793-15225961.pdf?src-supplier=Verical; Design Item ID: 1729034; Stock: 23266; Mounting Technology: Board; ComponentLink4Description: https://datasheet.ciiva.com/15225/getdatasheetpartid-305793-15225961.pdf?src-supplier=Verical; Component Type: Standard; ComponentLink6URL: https://datasheet.ciiva.com/14608/70054377-14608714.pdf?src-supplier=Allied+Electronics; Pin Count: 4; ComponentLink5URL: https://datasheet.ciiva.com/14110/mkdsn-series-eng-bro-14110735.pdf?src-supplier=Distrelec; Category: Terminal Blocks; Pricing: 1=2.26, 10=2.162, 50=2.068, 100=2.0116, 250=1.88, 500=1.7296, 1000=1.59801, 2500=1.5275 (USD); Number of Rows: 1; ComponentLink5Description: https://datasheet.ciiva.com/14110/mkdsn-series-eng-bro-14110735.pdf?src-supplier=Distrelec; RoHS: Yes; ComponentLink3Description: https://datasheet.ciiva.com/16071/1729034-16071818.pdf?src-supplier=Onlinecomponents.com; ComponentLink2URL: https://datasheet.ciiva.com/824/1729034-824323.pdf?src-supplier=Digikey; ComponentLink3URL: https://datasheet.ciiva.com/16071/1729034-16071818.pdf?src-supplier=Onlinecomponents.com; Terminal and Terminal Block Type: BARRIER STRIP TERMINAL BLOCK; Manufacturer Part Number: 1729034; ComponentLink1URL: https://datasheet.ciiva.com:443/pdfs/VipMasterIC/IC/PCON/PCON-S-A0009615323/PCON-S-A0009615323-1.pdf?src-supplier=IHS+Markit
footprint 1729034
pins: 1, 2, 3, 4

## CMP-028-000006-1
designator Q?, comment SSM3J372R,LF
MOSFET (P-Channel); Manufacturer_Name: Toshiba; Arrow Price/Stock: null?utm_currency=USD&region=nac; Pin Count: 3; Mouser Part Number: 757-SSM3J372RLF; Datasheet Link: https://toshiba.semicon-storage.com/ap-en/semiconductor/product/mosfets/detail.SSM3J372R.html; Source: Hybrids_Avionics.SCHLIB; Manufacturer_Part_Number: SSM3J372R,LF; Component Type: Standard; Design Item ID: SSM3J372R,LF; Arrow Part Number: SSM3J372R,LF; Height: 0.88mm; Mouser Price/Stock: https://www.mouser.co.uk/ProductDetail/Toshiba/SSM3J372RLF?qs=u16ybLDytRbJaSMlwq9MLA%3D%3D
footprint SSM3J372RLF
pins: 1 G, 2 S, 3 D

## CMP-028-000014-1
designator Q?, comment SSM3J372R,LF
MOSFET (P-Channel); Manufacturer_Name: Toshiba; Source: Hybrids_Avionics.SCHLIB; Pin Count: 3; Manufacturer_Part_Number: SSM3J372R,LF; Mouser Price/Stock: https://www.mouser.co.uk/ProductDetail/Toshiba/SSM3J372RLF?qs=u16ybLDytRbJaSMlwq9MLA%3D%3D; Height: 0.88mm; Mouser Part Number: 757-SSM3J372RLF; Datasheet Link: https://toshiba.semicon-storage.com/ap-en/semiconductor/product/mosfets/detail.SSM3J372R.html; Arrow Price/Stock: null?utm_currency=USD&region=nac; Arrow Part Number: SSM3J372R,LF; Component Type: Standard; Design Item ID: SSM3J372R,LF
footprint SSM3J372RLF
pins: 1 G, 2 S, 3 D

## CMP-062-000000-2
designator X?, comment DSA6101JL2B-032K768VAO
Description; Manufacturer_Name: Microchip; Manufacturer_Part_Number: DSA6101JL2B-032K768VAO; Source: DSA6101JL2B-032K768VAO.SchLib; Design Item ID: DSA6101JL2B-032K768VAO; Type: Oscillators; Copyright: Copyright (C) 2025 Ultra Librarian. All rights reserved.; RefDes: RefDes
footprint VLGA4_AUA_MCH
pins: 1 OE, 2 GND, 3 OUT, 4 VDD

## CMP-0777-00108-3
designator U?, comment SN74LVC08ADR
Quadruple 2-Input Positive-AND Gate, D0014A, LARGE T&R; Manufacturer: Texas Instruments; Input Type: TTL; Output Drive (IOL/IOH)(Max)(mA): -24/24; Rating: Catalog; Technology Family: LVC; tpd @ Nom Voltage(Max)(ns): 9.8,6.9,4.8,4.1; ICC @ Nom Voltage(Max)(mA): 0.01; Voltage(Nom)(V): 1.8,2.5,2.7,3.3; F @ Nom Voltage(Max)(Mhz): 70; Schmitt Trigger: No; Bits(#): 4; VCC(Max)(V): 3.6; VCC(Min)(V): 1.65; Generic Part Number: SN74LVC08A; Output Type: TTL; DatasheetVersion: SCAS283Q; Operating Temperature Range(C): -40 to 125; PackageReference: D0014A
footprint D0014A_N (SOIC, 14-Leads, Body 8.75x4mm, Pitch 1.27mm, IPC Medium Density)
footprint D0014A_M (SOIC, 14-Leads, Body 8.75x4mm, Pitch 1.27mm, IPC Low Density)
footprint D0014A_L (SOIC, 14-Leads, Body 8.75x4mm, Pitch 1.27mm, IPC High Density)
part A pins: 1 1A (in), 2 1B (in), 3 1Y (out)
part B pins: 4 2A (in), 5 2B (in), 6 2Y (out)
part C pins: 8 3Y (out), 9 3A (in), 10 3B (in)
part D pins: 11 4Y (out), 12 4A (in), 13 4B (in)
part E pins: 7 GND (power), 14 VCC (power)

## CMP-1024-00317-1
designator P?, comment TSW-102-08-F-S-NA
0.025" SQ Post Header, Through-hole, Right Angle, -55 to 125 degC, 2.54 mm Pitch, 2-Pin, Male, RoHS; Manufacturer: Samtec; Pitch: 2.54 mm; ComponentLink3URL: http://www.samtec.com/documents/webfiles/cpdf/TSW-XXX-XX-XXX-X-XX-XXX-MKT.pdf; ComponentLink1URL: http://www.samtec.com; PartNumber: TSW-102-08-F-S-NA; ComponentLink1Description: Manufacturer URL; DatasheetVersion: F-214; Temperature Range: -55 to 125 degC; Orientation: Right Angle; PackageReference: TSW-102-08-X-S-NA; Mounting Technology: Through-hole; PackageVersion: DM, 8/1988; PackageDescription: .025[0.64] SQ. Post Terminal Strip Assembly; ComponentLink2URL: http://www.samtec.com/documents/webfiles/pdf/TSW_TH.PDF; RoHS: True; ComponentLink3Description: Package Specification; ComponentLink2Description: Datasheet
footprint SMTC-TSW-102-08-X-S-NA (.025 SQ Post Terminal Strip Assembly, 1x2 Pins, Right Angle, 2.54mm Pitch, Male)
pins: 1, 2

## CMP-1036-04429-1
designator C?, comment 100nF
CAP 100nF 100V ±10% 0805 (2012 Metric) Thickness 1.45mm SMD; Tolerance: Â±10%; Case-Metric: 2012; Case-EIA: 0805; Rated Voltage: 100 V; Max Thickness: 1.45 mm; Technology: SMT; Value: 100nF
footprint CAPC0805(2012)145_M (Chip Capacitor, Body 2.0x1.2mm, Height 1.45mm, IPC Low Density)
footprint CAPC0805(2012)145_L (Chip Capacitor, Body 2.0x1.2mm, Height 1.45mm, IPC High Density)
footprint CAPC0805(2012)145_N (Chip Capacitor, Body 2.0x1.2mm, Height 1.45mm, IPC Medium Density)
pins: 1, 2
1 alternate drawing of the same symbol

## CMP-02766-001593-1
designator J?, comment TSM-110-01-F-SV
CONN HEADER SMD 10POS 2.54MM; Max Current Rating: 7A; Gender: Male; Max Voltage Rating (AC): 475V; Number of Contacts: 10; Pitch: 2.54mm; Termination: Solder; Contact Type: Male Pin; Max Operating Temperature: 125°C; Housing Color: Black; Number of Rows: 1; Series: TSM; Housing Material: Polymer; Orientation: Straight; Min Operating Temperature: -55°C; Insulation Material: Polymer; Contact Shape: Square; Lead Free: Lead Free; Contact Finish - Mating: GOLD; Length: 25.4mm; Fastening Type: Pull; Depth: 2.54mm; Contact Material: Bronze; RoHS Compliant: Yes; Contact Plating: Gold; Radiation Hardening: No; Packaging: Rail/Tube; Connector Type: Header; Insulation Color: Black; Flammability Rating: UL94 V-0; Number of Positions: 10
footprint FP-TSM-110-01-F-SV-MFG
pins: 1, 2, 3, 4, 5, 6, 7, 8, 9, 10

## CMP-08834-000028-1
designator SW?, comment B3U-1100PM
SWITCH TACTILE SPST-NO 0.05A 12V; Switch Travel: 0.15mm; Throw Configuration: SPST; Current Rating: 50mA; Illumination Type: Non-Illuminated; Actuator Length: 0.4mm; Operating Force: 1.5N; Connector Type: SMD/SMT; Contact Resistance: 100mR; Actuator Type: Standard; Electrical Life: 200000Cycles; Switch Function: Off-Mom; Ratings: Dust Proof; Max Operating Temperature: 70°C; Weight: 0.022g; Series: B3U; Min Operating Temperature: -25°C; Voltage Rating (DC): 12V; Orientation: Straight; Package Quantity: 1000; Packaging: Tape and Reel; RoHS Compliant: Yes; REACH SVHC: No SVHC; Max Voltage Rating (DC): 12V; Mount: Surface Mount; Case/Package: SMD/SMT; Mechanical Life: 200000Cycles; Termination: SMD/SMT
footprint FP-B3U-1100PM-MFG
pins: 1, 2, 3 GND (power)

## CMP-25159-260170-1
designator Y?, comment SIT8008BI-22-33E-8.000000G
MEMS OSC XO 8.0000MHZ H/LV-CMOS; Frequency Stability: 25ppm; Frequency: 8MHz; Max Supply Current: 4.5mA; Min Operating Temperature: -40°C; RoHS Compliant: Yes; Series: SIT8008B; Mount: Surface Mount; Packaging: Cut Tape; Case/Package: SMD/SMT; Max Operating Temperature: 85°C
footprint FP-SiT8008-2-MFG
pins: 1 OE (in), 2 GND (power), 3 OUT (out), 4 VDD (power)

## CMP-157536-000001-1
designator J?, comment PRT-10474
XT60 CONNECTORS MALE/FEMALE PAIR
footprint FP-PRT-10474-MFG
text: 1; 2

## D_GREEN_LED
designator D?, comment GREEN
Green LED; LCSC Part #: C434446
footprint LEDC1005X35N
pins: 1 C, 2 A

## D_RED_LED
designator D?, comment RED
RED LED; LCSC Part #: C397045
footprint LEDC1005X35N
pins: 1 C, 2 A

## D_Schotty_Diode
designator D?, comment BAT60JFILM
Diode Small Signal Schottky 10V 3A Automotive 2-Pin SOD-323 T/R; Manufacturer: STMicroelectronics; Element Configuration: Single; Forward Voltage: 320mV; Max Forward Surge Current (Ifsm): 5A; Max Junction Temperature (Tj): 150°C; Max Power Dissipation: 310mW; Max Reverse Leakage Current: 7.5µA; Number of Elements: 1; Peak Reverse Current: 2.5µA; Polarity: Standard; Supplier: DigiKey; Supplier Part Number: 497-3707-1-ND; Manufacturer Part Number: BAT60JFILM; RoHS: Compliant; Category: Schottky Diodes; Stock: 96297; Pricing: 1=0.29, 10=0.14, 100=0.1213, 500=0.08962, 1000=0.07938 (USD); Average Rectified Current: 3A; China RoHS: Compliant; Contact Plating: Tin; Current Rating: 3A; Forward Current: 3A; Height: 1.17mm; Lead Free: Lead Free; Length: 1.8mm; Lifecycle Status: Production; Max Operating Temperature: 150°C; Max Output current: 3A; Max Repetitive Reverse Voltage (Vrrm): 10V; Max Reverse Voltage (DC): 10V; Max Surge Current: 5A; Min Operating Temperature: -65°C; Mounting Technology: Surface Mount; Pins: 2; Number of Terminals: 2; Output Current: 3A; Packaging: Tape and Reel; Peak Non-Repetitive Surge Current: 5A; Radiation Hardening: No; REACH SVHC: Yes; Reverse Standoff Voltage: 10V; Schedule B: 8541100080, 8541100080|8541100080|8541100080|8541100080|8541100080|8541100080|8541100080|8541100080|8541100080|8541100080|8541100080|8541100080|8541100080|8541100080|8541100080|8541100080|8541100080|8541100080|8541100080|8541100080|8541100080|8541100080|8541100080|85; Voltage Rating (DC): 10V; Weight: 4.535924g; Width: 1.45mm; ComponentLink1URL: https://datasheet.octopart.com:443/BAT60JFILM-STMicroelectronics-datasheet-56177.pdf?src-supplier=STMicroelectronics; ComponentLink1Description: https://datasheet.octopart.com:443/BAT60JFILM-STMicroelectronics-datasheet-56177.pdf?src-supplier=STMicroelectronics; ComponentLink2URL: https://datasheet.octopart.com:443/BAT60JFILM-STMicroelectronics-datasheet-12532682.pdf?src-supplier=TME; ComponentLink2Description: https://datasheet.octopart.com:443/BAT60JFILM-STMicroelectronics-datasheet-12532682.pdf?src-supplier=TME; ComponentLink3URL: https://datasheet.octopart.com:443/BAT60JFILM-STMicroelectronics-datasheet-181242469.pdf?src-supplier=Newark; ComponentLink3Description: https://datasheet.octopart.com:443/BAT60JFILM-STMicroelectronics-datasheet-181242469.pdf?src-supplier=Newark; ComponentLink4URL: https://datasheet.octopart.com:443/BAT60JFILM-STMicroelectronics-datasheet-14054140.pdf?src-supplier=iiiC; ComponentLink4Description: https://datasheet.octopart.com:443/BAT60JFILM-STMicroelectronics-datasheet-14054140.pdf?src-supplier=iiiC; LCSC Part #: C133103
footprint SOD2513X117N
pins: 1 K, 2 A